# EAGLE library part XLR-5 (library Andy)
Neutrik XLR-5 Connector - XLR-5 Connector for DMX applications. This is an XLR-5 Connector, commonly used for DMX512 lighting communication. Mouser 568-NC5FBH
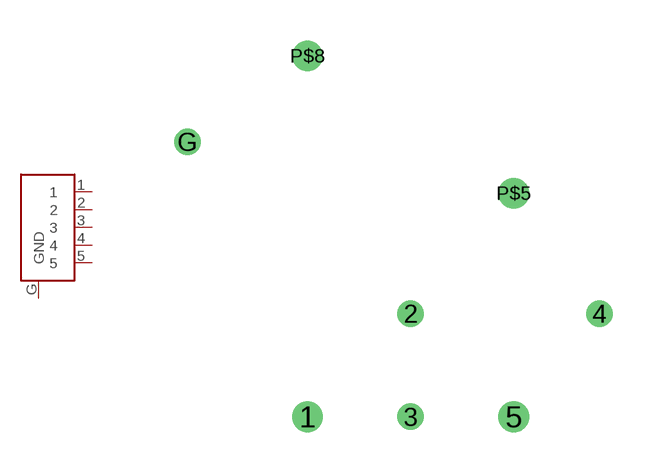
[diagram p2: symbol with the pads of XLR-5; footprint XLR-5]

Designator prefix -

## XLR-5  [XLR-5]
1  1
2  2
3  3
4  4
5  5
G  GND

## Footprint XLR-5 (pad centres in mm)
drill 0.63: 1 -3.81,0; 5 3.81,0; P$5 3.81,8.26; P$8 -3.81,13.34
drill 0.472: 2 0,3.815; 3 0,0; 4 6.98,3.815; G -8.25,10.17